# EAGLE library part BNO086 (library BNO086)
Accelerometer, Gyroscope, Magnetometer, Temperature, 9 Axis Sensor IC, SPI Output Source: Datasheet
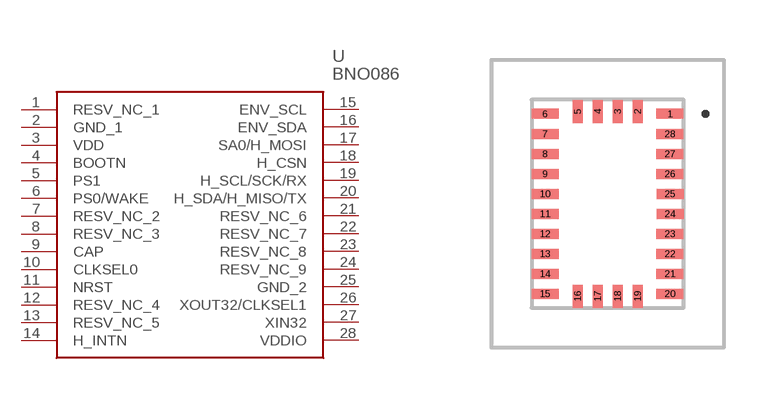
[diagram p0: symbol with the pads of BNO086; footprint BNO086]

Designator prefix U

## BNO086 (Description: Accelerometer, Gyroscope, Magnetometer, Temperature, 9 Axis Sensor IC, SPI Output; Height: 1.18mm; Manufacturer_Name: CEVA; Manufacturer_Part_Number: BNO086; Mouser_Part_Number: 526-BNO086; Mouser_Price-Stock: https://www.mouser.co.uk/ProductDetail/CEVA/BNO086?qs=ulEaXIWI0c%2FqTo1scjodAw%3D%3D)  [BNO086]
1  RESV_NC_1
2  GND_1
3  VDD
4  BOOTN
5  PS1
6  PS0/WAKE
7  RESV_NC_2
8  RESV_NC_3
9  CAP
10  CLKSEL0
11  NRST
12  RESV_NC_4
13  RESV_NC_5
14  H_INTN
15  ENV_SCL
16  ENV_SDA
17  SA0/H_MOSI
18  H_CSN
19  H_SCL/SCK/RX
20  H_SDA/H_MISO/TX
21  RESV_NC_6
22  RESV_NC_7
23  RESV_NC_8
24  RESV_NC_9
25  GND_2
26  XOUT32/CLKSEL1
27  XIN32
28  VDDIO

## Footprint BNO086 (pad centres in mm)
BNO086-1
smd 0.675 x 0.25: 1 1.562,2.25; 6 -1.562,2.25; 7 -1.562,1.75; 8 -1.562,1.25; 9 -1.562,0.75; 10 -1.562,0.25; 11 -1.562,-0.25; 12 -1.562,-0.75; 13 -1.562,-1.25; 14 -1.562,-1.75; 15 -1.562,-2.25; 20 1.562,-2.25; 21 1.562,-1.75; 22 1.562,-1.25; 23 1.562,-0.75; 24 1.563,-0.25; 25 1.563,0.25; 26 1.562,0.75; 27 1.562,1.25; 28 1.562,1.75
smd 0.25 x 0.575: 2 0.75,2.312; 3 0.25,2.312; 4 -0.25,2.312; 5 -0.75,2.312; 16 -0.75,-2.313; 17 -0.25,-2.313; 18 0.25,-2.313; 19 0.75,-2.313